# Altium footprint library SRP1040_footprint.PcbLib: 4 footprints
Each footprint in its own frame and in the unit in brackets; x right, y up, seen from the top. Pads: shape width x height; smd on the part's side, far side on the other; paste and mask are expansions set on the pad; w line width, h text height; cw(c..) or ccw(c..) is an arc to the next point about the centre after c.
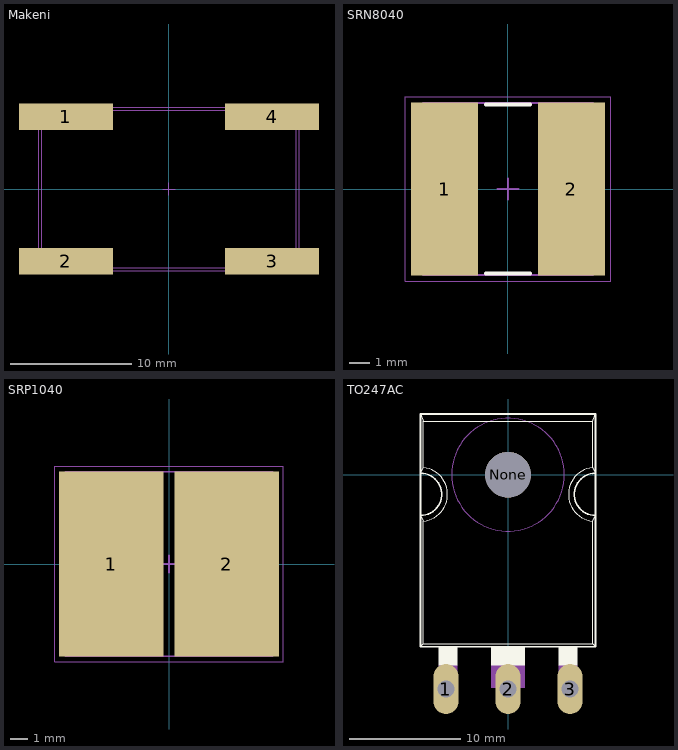
[diagram p0: the footprints below, top view; thin cyan lines are the x and y axes]

## Makeni [mm] "DFN, 4-Leads, Body 12.50x20.50mm, Pitch 17.02mm, IPC Medium Density"
height 11.2
pads (4):
  rect 7.75x2.2 smd: 1(-8.51,5.97) 2(-8.51,-5.97) 3(8.51,-5.97) 4(8.51,5.97)
Top Overlay:
  circle w0.1: c-10.5,6.9 r0.05
Mechanical 13:
  lines w0.1: -10.5,-6.5 -10.5,6.5 10.5,6.5 10.5,-6.5 -10.5,-6.5
Mechanical 15:
  lines w0.05: -10.75,-6.75 -10.75,6.75 10.75,6.75 10.75,-6.75 -10.75,-6.75
  lines w0.1: -0.5,0 0.5,0 ; 0,-0.5 0,0.5
3D body: height 11.2, standoff 0, extent -10.5,-6.5 10.5,6.5

## SRN8040 [mm] "Chip Inductor, 2-Leads, Body 8.20x8.15mm, IPC Medium Density"
height 4
pads (2):
  rect 3.2x8.27 smd: 1(-3.03,0) 2(3.03,0)
Top Overlay:
  lines w0.2: -1.05,-4.035 1.05,-4.035 ; -1.05,4.035 1.05,4.035
Mechanical 13:
  lines w0.1: -4.05,-4.1 -4.05,4.1 4.05,4.1 4.05,-4.1 -4.05,-4.1
Mechanical 15:
  lines w0.05: -4.9,-4.4 -4.9,4.4 4.9,4.4 4.9,-4.4 -4.9,-4.4
  lines w0.1: -0.5,0 0.5,0 ; 0,-0.5 0,0.5
3D body: height 4, standoff 0, extent -1.45,-4.1 1.45,4.1
3D body: height 4, standoff 0, extent -4.05,-4.1 -1.45,4.1
3D body: height 4, standoff 0, extent 1.45,-4.1 4.05,4.1

## SRP1040 [mm] "Chip Inductor, 2-Leads, Body 11.00x10.00mm, IPC Medium Density"
height 4.2
pads (2):
  rect 5.94x10.51 smd: 1(-3.28,0) 2(3.28,0)
Mechanical 13:
  lines w0.1: -5.9,-5.25 -5.9,5.25 5.9,5.25 5.9,-5.25 -5.9,-5.25
Mechanical 15:
  lines w0.05: -6.5,-5.55 -6.5,5.55 6.5,5.55 6.5,-5.55 -6.5,-5.55
  lines w0.1: -0.5,0 0.5,0 ; 0,-0.5 0,0.5
3D body: height 4.2, standoff 0, extent -1.15,-5.25 1.15,5.25
3D body: height 4.2, standoff 0, extent -5.9,-5.25 -1.15,5.25
3D body: height 4.2, standoff 0, extent 1.15,-5.25 5.9,5.25

## TO247AC [mil]
pads (4):
  oval 88.5x177 hole 59: 1(-220,-760) 2(0,-760) 3(220,-760)
  round 162 hole 162 unplated: None(0,0)
Top Overlay:
  circle w6: c0,0 r75
  region: 180.49,-610 245,-610 245,-675.86 180.49,-675.86
  region: -60.22,-610 60,-610 60,-676.13 -60.22,-676.13
  region: -245.54,-610 -180,-610 -180,-675.7 -245.54,-675.7
  lines w2: -310,-610 -300,-600 ; -310,-145 -300,-165 ; -310,5 -300,25 ; -310,215 -300,190 ; 310,-610 300,-600 ; 310,-145 300,-165 ; 310,5 300,25 ; 310,215 300,190 ; -300,-600 300,-600 ; -300,-600 -300,-165 ; -300.01,-165 ccw(c-310,-70) -300.01,25 ; -300,25 -300,190 ; -300,190 300,190 ; 300,-600 300,-165 ; 300.01,-165 cw(c310,-70) 300.01,25 ; 300,25 300,190
  lines w6: -310,-145 ccw(c-310,-70) -310,5 ; -310,-145 -310,-610 310,-610 310,-145 ; -310,-145 -310,5 ; -310,5 -310,215 310,215 310,5 ; 310,-145 cw(c310,-70) 310,5 ; 310,-145 310,5
Mechanical 1:
  circle w0: c0,0 r200
  circle w0: c0,0 r200
  region: -245.34,-675 -180,-675 -180,-755.55 -245.34,-755.55
  region: -245.31,-755 -195,-755 -195,-775.53 -245.31,-775.53
  region: -60.12,-675 60,-675 60,-755.8 -60.12,-755.8
  region: -25.04,-755 25,-755 25,-775.65 -25.04,-775.65
  region: 180.16,-675 245,-675 245,-755.36 180.16,-755.36
  region: 195.1,-755 245,-755 245,-775.2 195.1,-775.2